# Altium integrated library HP8555A_A9.IntLib: 10 symbols
Pins are listed as number, name and electrical type; pins without a type are passive.

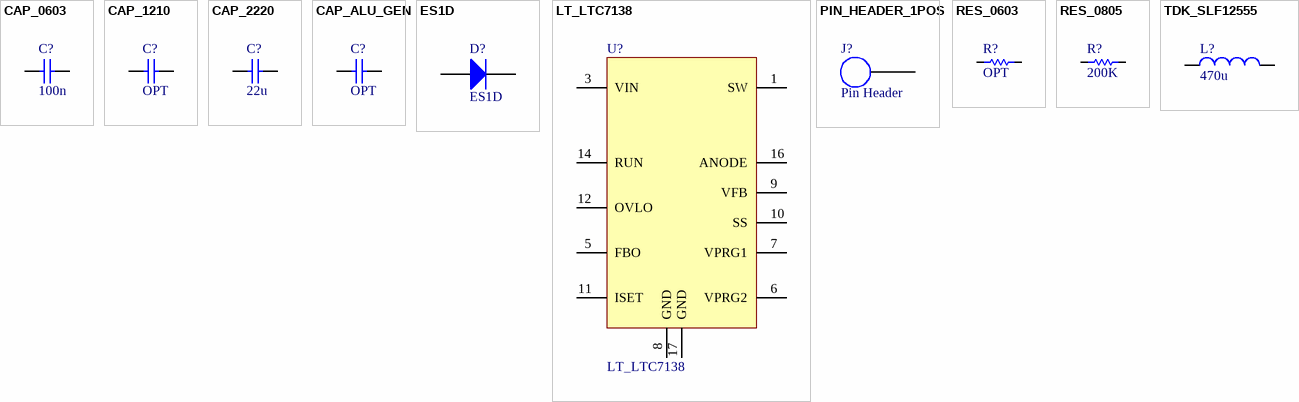
[diagram p0: symbols CAP_0603 to TDK_SLF12555]

## CAP_0603
designator C?, comment 100n
CAP 100nF Vcap Ptol Dial 0603; Category: capacitor; Created: 2018-07-01; Created By: JS; Last Modified: 2018-07-01
footprint CAP_0603_M (Chip Capacitor, Body 1.6x0.8mm, Height 1.0mm, IPC Medium Density)
pins: 1, 2

## CAP_1210
designator C?, comment OPT
CAP Cnom Vcap Ptol Dial 1210; Category: capacitor; Created: 2018-07-01; Created By: JS; Last Modified: 2018-07-01
footprint CAP_1210_M (Chip Capacitor, Body 3.2x2.5mm, Height 2.2mm, IPC Low Density)
pins: 1, 2

## CAP_2220
designator C?, comment 22u
CAP Cnom Vcap Ptol Dial 2220; Category: capacitor; Created: 2018-07-01; Created By: JS; Last Modified: 2018-07-01
footprint CAP_2220_M (Chip Capacitor, Body 5.7x5.0mm, Height 2.3mm, IPC Medium Density)
pins: 1, 2

## CAP_ALU_GEN
designator C?, comment OPT
CAP Cnom Vcap Ptol Dial; Category: capacitor; Created: 2018-07-01; Created By: JS; Last Modified: 2018-07-01
footprint CAP_ALU_GEN (CAPAE, 2-Leads, Dia 8mm, Body Length 10.5mm, IPC High Density)
pins: 1, 2

## ES1D
designator D?
DIODE 200V 1A SMA
footprint ES1D (Molded Diode, 2-Leads, Body 4.292x2.693mm)
pins: 1 K, 2 A

## LT_LTC7138
designator U?
Step Down IC 140V 400mA; Manufacturer: Linear Technology; FootREV: 01; Manufacturer PN: LTC7138
footprint LT_LTC7138 (Step down converter, 16-lead MSOP with 4 pins removed)
pins: 1 SW, 3 VIN, 5 FBO, 6 VPRG2, 7 VPRG1, 8 GND, 9 VFB, 10 SS, 11 ISET, 12 OVLO, 14 RUN, 16 ANODE, 17 GND

## PIN_HEADER_1POS
designator J?, comment Pin Header
Pin Header 0.1" 1pos
footprint PIN_HEADER_1POS
pins: 1

## RES_0603
designator R?, comment OPT
RES OPT 1/5W 0603; Manufacturer: *; Manufacturer PN: *; Category: resistor; Created: 2018-07-01; Last Modified: 2018-07-01; Created By: JS
footprint RES_0603_M (Chip Resistor, Body 0.6x0.3mm, IPC Medium Density)
pins: 1, 2

## RES_0805
designator R?, comment 200K
RES 200K 1/5W 0805; Manufacturer: *; Manufacturer PN: *; Category: resistor; Created: 2018-07-01; Last Modified: 2018-07-01; Created By: JS
footprint RES_0603_M (Chip Resistor, Body 0.6x0.3mm, IPC Medium Density)
pins: 1, 2

## TDK_SLF12555
designator L?, comment 470u
IND Lind Ltol Imax Rdc
footprint TDK_SLF12555T (Inductor)
pins: 1, 2